# Altium integrated library TI_Logic_Gate.IntLib: 2017 symbols (part 10 of 56)
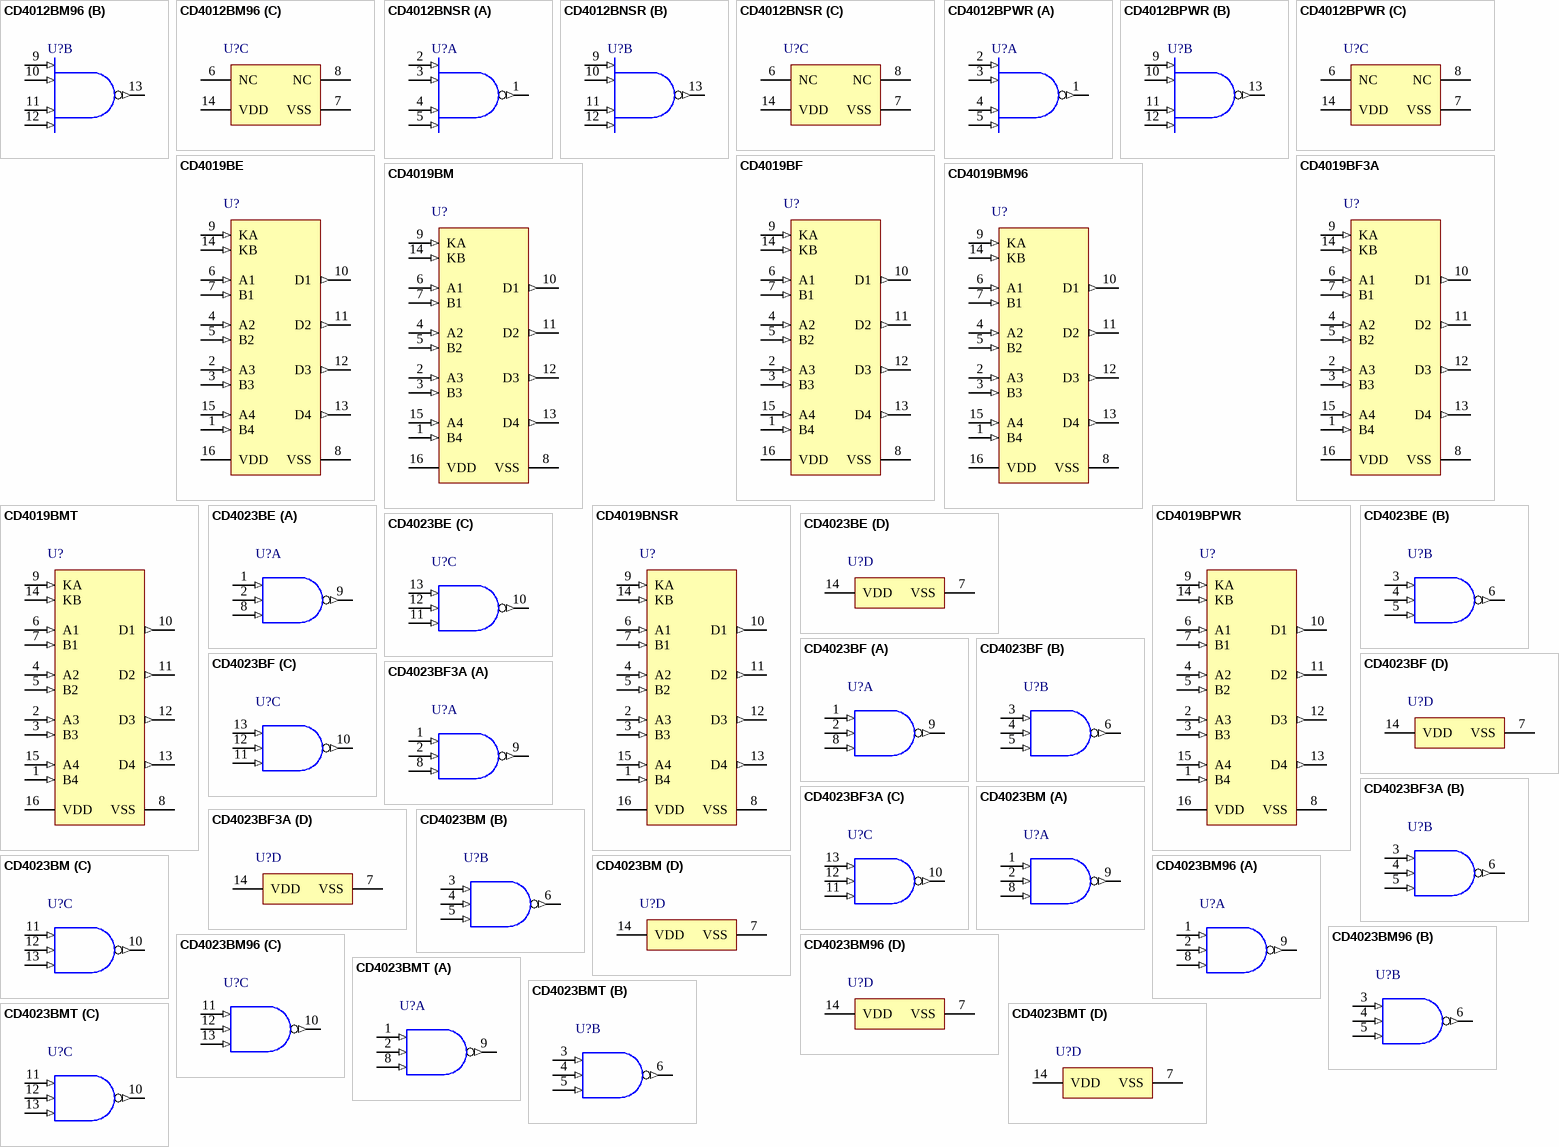
[diagram p234: symbols CD4012BM96 to CD4023BMT]

## CD4019BMT
designator U?
CMOS Quad AND/OR Select Gate, D0016A, SMALL T&R; Generic Part Number: CD4019B; Manufacturer: Texas Instruments; PartNumber: CD4019BMT; VCC(Max)(V): 18; VCC(Min)(V): 3; ICC @ Nom Voltage(Max)(mA): 0.06; Bits(#): 4; F @ Nom Voltage(Max)(Mhz): 8; Rating: Catalog; Technology Family: CD4000; Voltage(Nom)(V): 10; Schmitt Trigger: No; Output Drive (IOL/IOH)(Max)(mA): 1.5/-1.5; tpd @ Nom Voltage(Max)(ns): 120; DatasheetVersion: SCHS029C; PackageReference: D0016A; Supplier 1: Mouser; Supplier Part Number 1: 595-CD4019BMT; Supplier 2: Digi-Key; Supplier Part Number 2: CD4019BMT-ND; Output Type: CMOS; Input Type: CMOS; Operating Temperature Range(C): -55 to 125; Code_JEDEC: MS-012 variation AC; ComponentLink1Description: Manufacturer URL; ComponentLink1URL: http://www.ti.com/; ComponentLink2Description: Datasheet; ComponentLink2URL: http://www.ti.com/lit/ds/symlink/cd4019b.pdf; ComponentLink3Description: Package Specification; ComponentLink3URL: http://www.ti.com/lit/ml/mpds178g/mpds178g.pdf
footprint D0016A_N (SOIC, 16-Leads, Body 10x4mm, Pitch 1.27mm, IPC Medium Density)
footprint D0016A_M (SOIC, 16-Leads, Body 10x4mm, Pitch 1.27mm, IPC Low Density)
footprint D0016A_L (SOIC, 16-Leads, Body 10x4mm, Pitch 1.27mm, IPC High Density)
pins: 1 B4 (in), 2 A3 (in), 3 B3 (in), 4 A2 (in), 5 B2 (in), 6 A1 (in), 7 B1 (in), 8 VSS (power), 9 KA (in), 10 D1 (out), 11 D2 (out), 12 D3 (out), 13 D4 (out), 14 KB (in), 15 A4 (in), 16 VDD (power)

## CD4019BNSR
designator U?
CMOS Quad AND/OR Select Gate, NS0016A, LARGE T&R; Generic Part Number: CD4019B; Manufacturer: Texas Instruments; PartNumber: CD4019BNSR; VCC(Max)(V): 18; VCC(Min)(V): 3; ICC @ Nom Voltage(Max)(mA): 0.06; Bits(#): 4; F @ Nom Voltage(Max)(Mhz): 8; Rating: Catalog; Technology Family: CD4000; Voltage(Nom)(V): 10; Schmitt Trigger: No; Output Drive (IOL/IOH)(Max)(mA): 1.5/-1.5; tpd @ Nom Voltage(Max)(ns): 120; DatasheetVersion: SCHS029C; PackageReference: NS0016A; Supplier 1: Mouser; Supplier Part Number 1: 595-CD4019BNSR; Supplier 2: Digi-Key; Supplier Part Number 2: CD4019BNSR-ND; Output Type: CMOS; Input Type: CMOS; Operating Temperature Range(C): -55 to 125; ComponentLink1Description: Manufacturer URL; ComponentLink1URL: http://www.ti.com/; ComponentLink2Description: Datasheet; ComponentLink2URL: http://www.ti.com/lit/ds/symlink/cd4019b.pdf; ComponentLink3Description: Package Specification; ComponentLink3URL: http://www.ti.com/lit/ml/msop002a/msop002a.pdf
footprint NS0016A_N (SOIC,16-Leads,Body 10.5x5.6mm,Pitch 1.27mm,IPC Medium Density)
footprint NS0016A_M (SOIC,16-Leads,Body 10.5x5.6mm,Pitch 1.27mm,IPC Low Density)
footprint NS0016A_L (SOIC,16-Leads,Body 10.5x5.6mm,Pitch 1.27mm,IPC High Density)
pins: 1 B4 (in), 2 A3 (in), 3 B3 (in), 4 A2 (in), 5 B2 (in), 6 A1 (in), 7 B1 (in), 8 VSS (power), 9 KA (in), 10 D1 (out), 11 D2 (out), 12 D3 (out), 13 D4 (out), 14 KB (in), 15 A4 (in), 16 VDD (power)

## CD4019BPWR
designator U?
CMOS Quad AND/OR Select Gate, PW0016A, LARGE T&R; Generic Part Number: CD4019B; Manufacturer: Texas Instruments; PartNumber: CD4019BPWR; VCC(Max)(V): 18; VCC(Min)(V): 3; ICC @ Nom Voltage(Max)(mA): 0.06; Bits(#): 4; F @ Nom Voltage(Max)(Mhz): 8; Rating: Catalog; Technology Family: CD4000; Voltage(Nom)(V): 10; Schmitt Trigger: No; Output Drive (IOL/IOH)(Max)(mA): 1.5/-1.5; tpd @ Nom Voltage(Max)(ns): 120; DatasheetVersion: SCHS029C; PackageReference: PW0016A; Supplier 1: Mouser; Supplier Part Number 1: 595-CD4019BPWR; Supplier 2: Digi-Key; Supplier Part Number 2: CD4019BPWR-ND; Output Type: CMOS; Input Type: CMOS; Operating Temperature Range(C): -55 to 125; Code_JEDEC: MO-153; ComponentLink1Description: Manufacturer URL; ComponentLink1URL: http://www.ti.com/; ComponentLink2Description: Datasheet; ComponentLink2URL: http://www.ti.com/lit/ds/symlink/cd4019b.pdf; ComponentLink3Description: Package Specification; ComponentLink3URL: http://www.ti.com/lit/ml/mpds361/mpds361.pdf
footprint PW0016A_N (SOP, 16-Leads, Body 5.1x4.5mm, Pitch 0.65mm, IPC Medium Density)
footprint PW0016A_M (SOP, 16-Leads, Body 5.1x4.5mm, Pitch 0.65mm, IPC Low Density)
footprint PW0016A_L (SOP, 16-Leads, Body 5.1x4.5mm, Pitch 0.65mm, IPC High Density)
pins: 1 B4 (in), 2 A3 (in), 3 B3 (in), 4 A2 (in), 5 B2 (in), 6 A1 (in), 7 B1 (in), 8 VSS (power), 9 KA (in), 10 D1 (out), 11 D2 (out), 12 D3 (out), 13 D4 (out), 14 KB (in), 15 A4 (in), 16 VDD (power)

## CD4023BE
designator U?
CMOS Triple 3-Input NAND Gate, N0014A, TUBE; Generic Part Number: CD4023B; Manufacturer: Texas Instruments; PartNumber: CD4023BE; VCC(Max)(V): 18; VCC(Min)(V): 3; ICC @ Nom Voltage(Max)(mA): 0.015; F @ Nom Voltage(Max)(Mhz): 8; Rating: Military; Technology Family: CD4000; Voltage(Nom)(V): 10; Schmitt Trigger: No; Output Drive (IOL/IOH)(Max)(mA): 1.5/-1.5; DatasheetVersion: SCHS021D; PackageReference: N0014A; Supplier 1: Mouser; Supplier Part Number 1: 595-CD4023BE; Supplier 2: Digi-Key; Supplier Part Number 2: 296-2041-5-ND; Output Type: CMOS; Input Type: CMOS; Bits(#): 3; Operating Temperature Range(C): -55 to 125; Code_JEDEC: MS-001; ComponentLink1Description: Manufacturer URL; ComponentLink1URL: http://www.ti.com/; ComponentLink2Description: Datasheet; ComponentLink2URL: http://www.ti.com/lit/ds/symlink/cd4023b.pdf; ComponentLink3Description: Package Specification; ComponentLink3URL: http://www.ti.com/lit/ml/mpdi002c/mpdi002c.pdf
footprint N0014A (DIP, 14-Leads, Body 19.7x6.6mm, Pitch 2.54mm)
part A pins: 1 A (in), 2 B (in), 8 C (in), 9 J (out)
part B pins: 3 D (in), 4 E (in), 5 F (in), 6 K (out)
part C pins: 10 L (out), 11 I (in), 12 H (in), 13 G (in)
part D pins: 7 VSS (power), 14 VDD (power)

## CD4023BF
designator U?
CMOS Triple 3-Input NAND Gate, J0014A, TUBE; Generic Part Number: CD4023B; Manufacturer: Texas Instruments; PartNumber: CD4023BF; VCC(Max)(V): 18; VCC(Min)(V): 3; ICC @ Nom Voltage(Max)(mA): 0.015; F @ Nom Voltage(Max)(Mhz): 8; Rating: Military; Technology Family: CD4000; Voltage(Nom)(V): 10; Schmitt Trigger: No; Output Drive (IOL/IOH)(Max)(mA): 1.5/-1.5; DatasheetVersion: SCHS021D; PackageReference: J0014A; Output Type: CMOS; Input Type: CMOS; Bits(#): 3; Operating Temperature Range(C): -55 to 125; ComponentLink1Description: Manufacturer URL; ComponentLink1URL: http://www.ti.com/; ComponentLink2Description: Datasheet; ComponentLink2URL: http://www.ti.com/lit/ds/symlink/cd4023b.pdf; ComponentLink3Description: Package Specification; ComponentLink3URL: http://www.ti.com/lit/ml/mcer002d/mcer002d.pdf
footprint J0014A (DIP, 14-Leads, Body 19.95x7.2mm, Pitch 2.54mm)
part A pins: 1 A (in), 2 B (in), 8 C (in), 9 J (out)
part B pins: 3 D (in), 4 E (in), 5 F (in), 6 K (out)
part C pins: 10 L (out), 11 I (in), 12 H (in), 13 G (in)
part D pins: 7 VSS (power), 14 VDD (power)

## CD4023BF3A
designator U?
CMOS Triple 3-Input NAND Gate, J0014A, TUBE; Generic Part Number: CD4023B; Manufacturer: Texas Instruments; PartNumber: CD4023BF3A; VCC(Max)(V): 18; VCC(Min)(V): 3; ICC @ Nom Voltage(Max)(mA): 0.015; F @ Nom Voltage(Max)(Mhz): 8; Rating: Military; Technology Family: CD4000; Voltage(Nom)(V): 10; Schmitt Trigger: No; Output Drive (IOL/IOH)(Max)(mA): 1.5/-1.5; DatasheetVersion: SCHS021D; PackageReference: J0014A; Output Type: CMOS; Input Type: CMOS; Bits(#): 3; Operating Temperature Range(C): -55 to 125; ComponentLink1Description: Manufacturer URL; ComponentLink1URL: http://www.ti.com/; ComponentLink2Description: Datasheet; ComponentLink2URL: http://www.ti.com/lit/ds/symlink/cd4023b.pdf; ComponentLink3Description: Package Specification; ComponentLink3URL: http://www.ti.com/lit/ml/mcer002d/mcer002d.pdf
footprint J0014A (DIP, 14-Leads, Body 19.95x7.2mm, Pitch 2.54mm)
part A pins: 1 A (in), 2 B (in), 8 C (in), 9 J (out)
part B pins: 3 D (in), 4 E (in), 5 F (in), 6 K (out)
part C pins: 10 L (out), 11 I (in), 12 H (in), 13 G (in)
part D pins: 7 VSS (power), 14 VDD (power)

## CD4023BM
designator U?
CMOS Triple 3-Input NAND Gate, D0014A, TUBE; Generic Part Number: CD4023B; Manufacturer: Texas Instruments; PartNumber: CD4023BM; VCC(Max)(V): 18; VCC(Min)(V): 3; ICC @ Nom Voltage(Max)(mA): 0.015; F @ Nom Voltage(Max)(Mhz): 8; Rating: Military; Technology Family: CD4000; Voltage(Nom)(V): 10; Schmitt Trigger: No; Output Drive (IOL/IOH)(Max)(mA): 1.5/-1.5; DatasheetVersion: SCHS021D; PackageReference: D0014A; Supplier 1: Mouser; Supplier Part Number 1: 595-CD4023BM; Supplier 2: Digi-Key; Supplier Part Number 2: 296-25941-5-ND; Output Type: CMOS; Input Type: CMOS; Bits(#): 3; Operating Temperature Range(C): -55 to 125; Code_JEDEC: MS-012; ComponentLink1Description: Manufacturer URL; ComponentLink1URL: http://www.ti.com/; ComponentLink2Description: Datasheet; ComponentLink2URL: http://www.ti.com/lit/ds/symlink/cd4023b.pdf; ComponentLink3Description: Package Specification; ComponentLink3URL: http://www.ti.com/lit/ml/mpds177g/mpds177g.pdf
footprint D0014A_N (SOIC, 14-Leads, Body 8.75x4mm, Pitch 1.27mm, IPC Medium Density)
footprint D0014A_M (SOIC, 14-Leads, Body 8.75x4mm, Pitch 1.27mm, IPC Low Density)
footprint D0014A_L (SOIC, 14-Leads, Body 8.75x4mm, Pitch 1.27mm, IPC High Density)
part A pins: 1 A (in), 2 B (in), 8 C (in), 9 J (out)
part B pins: 3 D (in), 4 E (in), 5 F (in), 6 K (out)
part C pins: 10 L (out), 11 I (in), 12 H (in), 13 G (in)
part D pins: 7 VSS (power), 14 VDD (power)

## CD4023BM96
designator U?
CMOS Triple 3-Input NAND Gate, D0014A, LARGE T&R; Generic Part Number: CD4023B; Manufacturer: Texas Instruments; PartNumber: CD4023BM96; VCC(Max)(V): 18; VCC(Min)(V): 3; ICC @ Nom Voltage(Max)(mA): 0.015; F @ Nom Voltage(Max)(Mhz): 8; Rating: Military; Technology Family: CD4000; Voltage(Nom)(V): 10; Schmitt Trigger: No; Output Drive (IOL/IOH)(Max)(mA): 1.5/-1.5; DatasheetVersion: SCHS021D; PackageReference: D0014A; Supplier 1: Mouser; Supplier Part Number 1: 595-CD4023BM96; Supplier 2: Digi-Key; Supplier Part Number 2: 296-41218-2-ND; Supplier 3: Digi-Key; Supplier Part Number 3: 296-41218-1-ND; Supplier 4: Digi-Key; Supplier Part Number 4: 296-41218-6-ND; Output Type: CMOS; Input Type: CMOS; Bits(#): 3; Operating Temperature Range(C): -55 to 125; Code_JEDEC: MS-012; ComponentLink1Description: Manufacturer URL; ComponentLink1URL: http://www.ti.com/; ComponentLink2Description: Datasheet; ComponentLink2URL: http://www.ti.com/lit/ds/symlink/cd4023b.pdf; ComponentLink3Description: Package Specification; ComponentLink3URL: http://www.ti.com/lit/ml/mpds177g/mpds177g.pdf
footprint D0014A_N (SOIC, 14-Leads, Body 8.75x4mm, Pitch 1.27mm, IPC Medium Density)
footprint D0014A_M (SOIC, 14-Leads, Body 8.75x4mm, Pitch 1.27mm, IPC Low Density)
footprint D0014A_L (SOIC, 14-Leads, Body 8.75x4mm, Pitch 1.27mm, IPC High Density)
part A pins: 1 A (in), 2 B (in), 8 C (in), 9 J (out)
part B pins: 3 D (in), 4 E (in), 5 F (in), 6 K (out)
part C pins: 10 L (out), 11 I (in), 12 H (in), 13 G (in)
part D pins: 7 VSS (power), 14 VDD (power)

## CD4023BMT
designator U?
CMOS Triple 3-Input NAND Gate, D0014A, SMALL T&R; Generic Part Number: CD4023B; Manufacturer: Texas Instruments; PartNumber: CD4023BMT; VCC(Max)(V): 18; VCC(Min)(V): 3; ICC @ Nom Voltage(Max)(mA): 0.015; F @ Nom Voltage(Max)(Mhz): 8; Rating: Military; Technology Family: CD4000; Voltage(Nom)(V): 10; Schmitt Trigger: No; Output Drive (IOL/IOH)(Max)(mA): 1.5/-1.5; DatasheetVersion: SCHS021D; PackageReference: D0014A; Supplier 1: Mouser; Supplier Part Number 1: 595-CD4023BMT; Supplier 2: Digi-Key; Supplier Part Number 2: CD4023BMT-ND; Output Type: CMOS; Input Type: CMOS; Bits(#): 3; Operating Temperature Range(C): -55 to 125; Code_JEDEC: MS-012; ComponentLink1Description: Manufacturer URL; ComponentLink1URL: http://www.ti.com/; ComponentLink2Description: Datasheet; ComponentLink2URL: http://www.ti.com/lit/ds/symlink/cd4023b.pdf; ComponentLink3Description: Package Specification; ComponentLink3URL: http://www.ti.com/lit/ml/mpds177g/mpds177g.pdf
footprint D0014A_N (SOIC, 14-Leads, Body 8.75x4mm, Pitch 1.27mm, IPC Medium Density)
footprint D0014A_M (SOIC, 14-Leads, Body 8.75x4mm, Pitch 1.27mm, IPC Low Density)
footprint D0014A_L (SOIC, 14-Leads, Body 8.75x4mm, Pitch 1.27mm, IPC High Density)
part A pins: 1 A (in), 2 B (in), 8 C (in), 9 J (out)
part B pins: 3 D (in), 4 E (in), 5 F (in), 6 K (out)
part C pins: 10 L (out), 11 I (in), 12 H (in), 13 G (in)
part D pins: 7 VSS (power), 14 VDD (power)

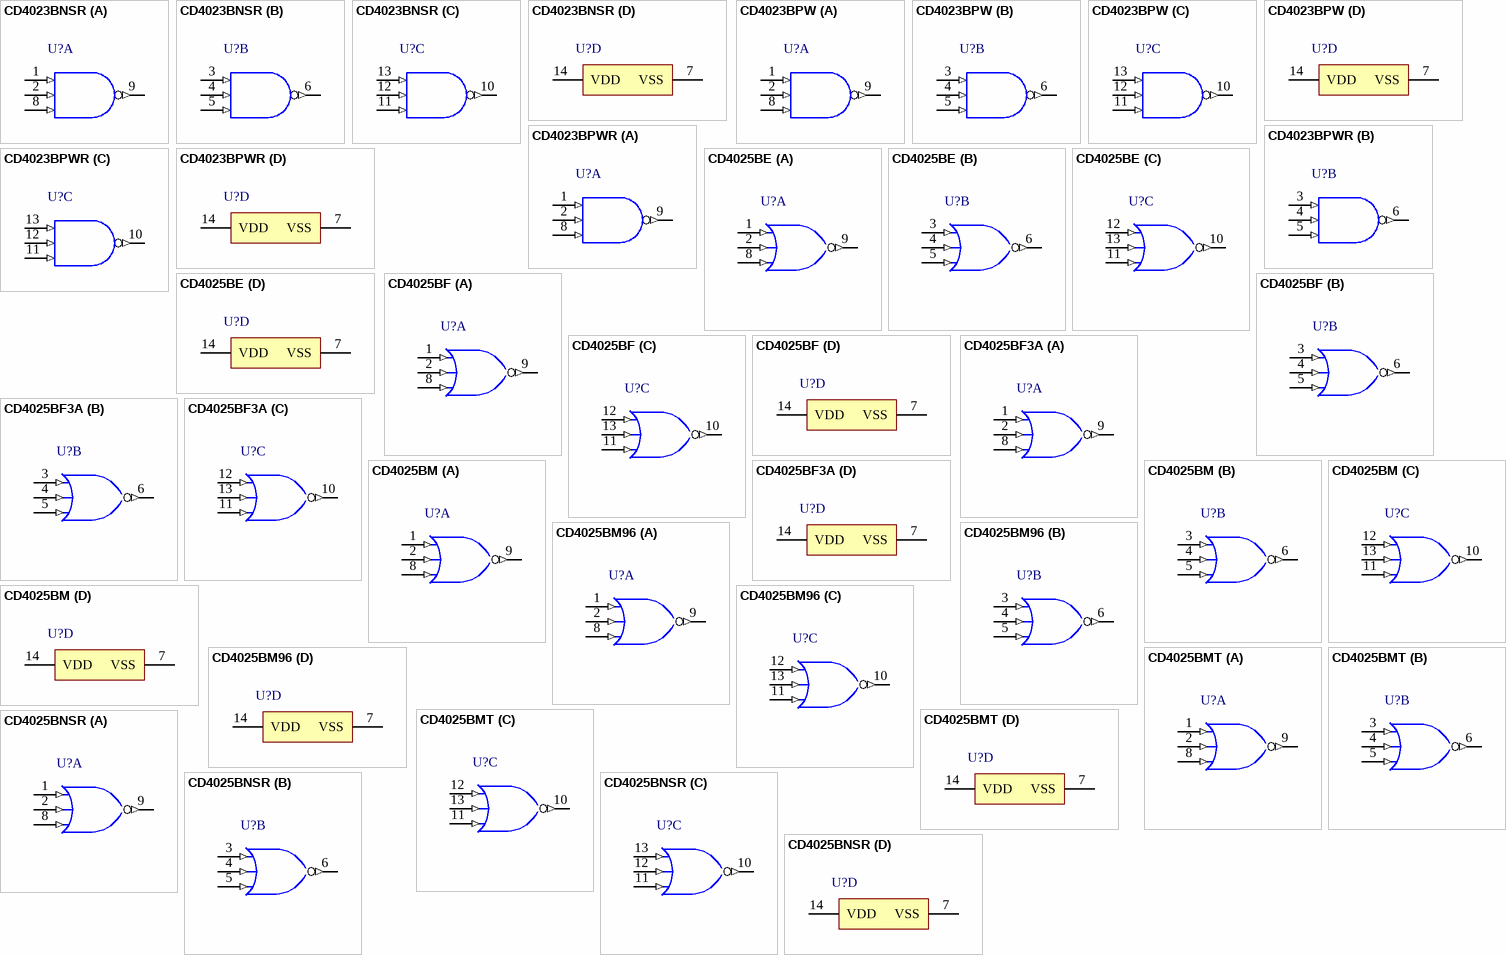
[diagram p37: symbols CD4023BNSR to CD4025BNSR]

## CD4023BNSR
designator U?
CMOS Triple 3-Input NAND Gate, NS0014A, LARGE T&R; Generic Part Number: CD4023B; Manufacturer: Texas Instruments; PartNumber: CD4023BNSR; VCC(Max)(V): 18; VCC(Min)(V): 3; ICC @ Nom Voltage(Max)(mA): 0.015; F @ Nom Voltage(Max)(Mhz): 8; Rating: Military; Technology Family: CD4000; Voltage(Nom)(V): 10; Schmitt Trigger: No; Output Drive (IOL/IOH)(Max)(mA): 1.5/-1.5; DatasheetVersion: SCHS021D; PackageReference: NS0014A; Supplier 1: Mouser; Supplier Part Number 1: 595-CD4023BNSR; Supplier 2: Digi-Key; Supplier Part Number 2: 296-14099-2-ND; Supplier 3: Digi-Key; Supplier Part Number 3: 296-14099-1-ND; Supplier 4: Digi-Key; Supplier Part Number 4: 296-14099-6-ND; Output Type: CMOS; Input Type: CMOS; Bits(#): 3; Operating Temperature Range(C): -55 to 125; ComponentLink1Description: Manufacturer URL; ComponentLink1URL: http://www.ti.com/; ComponentLink2Description: Datasheet; ComponentLink2URL: http://www.ti.com/lit/ds/symlink/cd4023b.pdf; ComponentLink3Description: Package Specification; ComponentLink3URL: http://www.ti.com/lit/ml/msop002a/msop002a.pdf
footprint NS0014A_N (SOIC,14-Leads,Body 10.5x5.6mm,Pitch 1.27mm,IPC Medium Density)
footprint NS0014A_M (SOIC,14-Leads,Body 10.5x5.6mm,Pitch 1.27mm,IPC Low Density)
footprint NS0014A_L (SOIC,14-Leads,Body 10.5x5.6mm,Pitch 0.4mm,IPC High Density)
part A pins: 1 A (in), 2 B (in), 8 C (in), 9 J (out)
part B pins: 3 D (in), 4 E (in), 5 F (in), 6 K (out)
part C pins: 10 L (out), 11 I (in), 12 H (in), 13 G (in)
part D pins: 7 VSS (power), 14 VDD (power)

## CD4023BPW
designator U?
CMOS Triple 3-Input NAND Gate, PW0014A, TUBE; Generic Part Number: CD4023B; Manufacturer: Texas Instruments; PartNumber: CD4023BPW; VCC(Max)(V): 18; VCC(Min)(V): 3; ICC @ Nom Voltage(Max)(mA): 0.015; F @ Nom Voltage(Max)(Mhz): 8; Rating: Military; Technology Family: CD4000; Voltage(Nom)(V): 10; Schmitt Trigger: No; Output Drive (IOL/IOH)(Max)(mA): 1.5/-1.5; DatasheetVersion: SCHS021D; PackageReference: PW0014A; Supplier 1: Mouser; Supplier Part Number 1: 595-CD4023BPW; Supplier 2: Digi-Key; Supplier Part Number 2: CD4023BPW-ND; Output Type: CMOS; Input Type: CMOS; Bits(#): 3; Operating Temperature Range(C): -55 to 125; Code_JEDEC: MO-153; ComponentLink1Description: Manufacturer URL; ComponentLink1URL: http://www.ti.com/; ComponentLink2Description: Datasheet; ComponentLink2URL: http://www.ti.com/lit/ds/symlink/cd4023b.pdf; ComponentLink3Description: Package Specification; ComponentLink3URL: http://www.ti.com/lit/ml/mpds360/mpds360.pdf
footprint PW0014A_N (SOP, 14-Leads, Body 5.1x4.5mm, Pitch 0.65mm, IPC Medium Density)
footprint PW0014A_M (SOP, 14-Leads, Body 5.1x4.5mm, Pitch 0.65mm, IPC Low Density)
footprint PW0014A_L (SOP, 14-Leads, Body 5.1x4.5mm, Pitch 0.65mm, IPC High Density)
part A pins: 1 A (in), 2 B (in), 8 C (in), 9 J (out)
part B pins: 3 D (in), 4 E (in), 5 F (in), 6 K (out)
part C pins: 10 L (out), 11 I (in), 12 H (in), 13 G (in)
part D pins: 7 VSS (power), 14 VDD (power)

## CD4023BPWR
designator U?
CMOS Triple 3-Input NAND Gate, PW0014A, LARGE T&R; Generic Part Number: CD4023B; Manufacturer: Texas Instruments; PartNumber: CD4023BPWR; VCC(Max)(V): 18; VCC(Min)(V): 3; ICC @ Nom Voltage(Max)(mA): 0.015; F @ Nom Voltage(Max)(Mhz): 8; Rating: Military; Technology Family: CD4000; Voltage(Nom)(V): 10; Schmitt Trigger: No; Output Drive (IOL/IOH)(Max)(mA): 1.5/-1.5; DatasheetVersion: SCHS021D; PackageReference: PW0014A; Supplier 1: Mouser; Supplier Part Number 1: 595-CD4023BPWR; Supplier 2: Digi-Key; Supplier Part Number 2: 296-31492-2-ND; Supplier 3: Digi-Key; Supplier Part Number 3: 296-31492-1-ND; Supplier 4: Digi-Key; Supplier Part Number 4: 296-31492-6-ND; Output Type: CMOS; Input Type: CMOS; Bits(#): 3; Operating Temperature Range(C): -55 to 125; Code_JEDEC: MO-153; ComponentLink1Description: Manufacturer URL; ComponentLink1URL: http://www.ti.com/; ComponentLink2Description: Datasheet; ComponentLink2URL: http://www.ti.com/lit/ds/symlink/cd4023b.pdf; ComponentLink3Description: Package Specification; ComponentLink3URL: http://www.ti.com/lit/ml/mpds360/mpds360.pdf
footprint PW0014A_N (SOP, 14-Leads, Body 5.1x4.5mm, Pitch 0.65mm, IPC Medium Density)
footprint PW0014A_M (SOP, 14-Leads, Body 5.1x4.5mm, Pitch 0.65mm, IPC Low Density)
footprint PW0014A_L (SOP, 14-Leads, Body 5.1x4.5mm, Pitch 0.65mm, IPC High Density)
part A pins: 1 A (in), 2 B (in), 8 C (in), 9 J (out)
part B pins: 3 D (in), 4 E (in), 5 F (in), 6 K (out)
part C pins: 10 L (out), 11 I (in), 12 H (in), 13 G (in)
part D pins: 7 VSS (power), 14 VDD (power)

## CD4025BE
designator U?
CMOS Triple 3-Input NOR Gate, N0014A, TUBE; Generic Part Number: CD4025B; Manufacturer: Texas Instruments; PartNumber: CD4025BE; VCC(Min)(V): 3; VCC(Max)(V): 18; Rating: Catalog; tpd @ Nom Voltage(Max)(ns): 120; ICC @ Nom Voltage(Max)(mA): 0.015; F @ Nom Voltage(Max)(Mhz): 8; Voltage(Nom)(V): 10; Output Drive (IOL/IOH)(Max)(mA): 1.5/-1.5; DatasheetVersion: SCHS015C; PackageReference: N0014A; Output Type: CMOS; Input Type: CMOS; Bits(#): 3; Operating Temperature Range(C): -55 to 125; Code_JEDEC: MS-001; ComponentLink1Description: Manufacturer URL; ComponentLink1URL: http://www.ti.com/; ComponentLink2Description: Datasheet; ComponentLink2URL: http://www.ti.com/lit/ds/symlink/cd4025b.pdf; ComponentLink3Description: Package Specification; ComponentLink3URL: http://www.ti.com/lit/ml/mpdi002c/mpdi002c.pdf
footprint N0014A (DIP, 14-Leads, Body 19.7x6.6mm, Pitch 2.54mm)
part A pins: 1 A (in), 2 B (in), 8 C (in), 9 J (out)
part B pins: 3 D (in), 4 E (in), 5 F (in), 6 K (out)
part C pins: 10 L (out), 11 I (in), 12 G (in), 13 H (in)
part D pins: 7 VSS (power), 14 VDD (power)

## CD4025BF
designator U?
CMOS Triple 3-Input NOR Gate, J0014A, TUBE; Generic Part Number: CD4025B-MIL; Manufacturer: Texas Instruments; PartNumber: CD4025BF; VCC(Min)(V): 3; VCC(Max)(V): 18; Rating: Military; tpd @ Nom Voltage(Max)(ns): 250; ICC @ Nom Voltage(Max)(mA): 0.015; F @ Nom Voltage(Max)(Mhz): 8; Voltage(Nom)(V): 10; Output Drive (IOL/IOH)(Max)(mA): 1.5/-1.5; DatasheetVersion: SCHS015C; PackageReference: J0014A; Output Type: CMOS; Input Type: CMOS; Bits(#): 3; Operating Temperature Range(C): -55 to 125; ComponentLink1Description: Manufacturer URL; ComponentLink1URL: http://www.ti.com/; ComponentLink2Description: Datasheet; ComponentLink2URL: http://www.ti.com/lit/ds/symlink/cd4025b-mil.pdf; ComponentLink3Description: Package Specification; ComponentLink3URL: http://www.ti.com/lit/ml/mcer002d/mcer002d.pdf
footprint J0014A (DIP, 14-Leads, Body 19.95x7.2mm, Pitch 2.54mm)
part A pins: 1 A (in), 2 B (in), 8 C (in), 9 J (out)
part B pins: 3 D (in), 4 E (in), 5 F (in), 6 K (out)
part C pins: 10 L (out), 11 I (in), 12 G (in), 13 H (in)
part D pins: 7 VSS (power), 14 VDD (power)

## CD4025BF3A
designator U?
CMOS Triple 3-Input NOR Gate, J0014A, TUBE; Generic Part Number: CD4025B-MIL; Manufacturer: Texas Instruments; PartNumber: CD4025BF3A; VCC(Min)(V): 3; VCC(Max)(V): 18; Rating: Military; tpd @ Nom Voltage(Max)(ns): 250; ICC @ Nom Voltage(Max)(mA): 0.015; F @ Nom Voltage(Max)(Mhz): 8; Voltage(Nom)(V): 10; Output Drive (IOL/IOH)(Max)(mA): 1.5/-1.5; DatasheetVersion: SCHS015C; PackageReference: J0014A; Output Type: CMOS; Input Type: CMOS; Bits(#): 3; Operating Temperature Range(C): -55 to 125; ComponentLink1Description: Manufacturer URL; ComponentLink1URL: http://www.ti.com/; ComponentLink2Description: Datasheet; ComponentLink2URL: http://www.ti.com/lit/ds/symlink/cd4025b-mil.pdf; ComponentLink3Description: Package Specification; ComponentLink3URL: http://www.ti.com/lit/ml/mcer002d/mcer002d.pdf
footprint J0014A (DIP, 14-Leads, Body 19.95x7.2mm, Pitch 2.54mm)
part A pins: 1 A (in), 2 B (in), 8 C (in), 9 J (out)
part B pins: 3 D (in), 4 E (in), 5 F (in), 6 K (out)
part C pins: 10 L (out), 11 I (in), 12 G (in), 13 H (in)
part D pins: 7 VSS (power), 14 VDD (power)

## CD4025BM
designator U?
CMOS Triple 3-Input NOR Gate, D0014A, TUBE; Generic Part Number: CD4025B; Manufacturer: Texas Instruments; PartNumber: CD4025BM; VCC(Min)(V): 3; VCC(Max)(V): 18; Rating: Catalog; tpd @ Nom Voltage(Max)(ns): 120; ICC @ Nom Voltage(Max)(mA): 0.015; F @ Nom Voltage(Max)(Mhz): 8; Voltage(Nom)(V): 10; Output Drive (IOL/IOH)(Max)(mA): 1.5/-1.5; DatasheetVersion: SCHS015C; PackageReference: D0014A; Output Type: CMOS; Input Type: CMOS; Bits(#): 3; Operating Temperature Range(C): -55 to 125; Code_JEDEC: MS-012; ComponentLink1Description: Manufacturer URL; ComponentLink1URL: http://www.ti.com/; ComponentLink2Description: Datasheet; ComponentLink2URL: http://www.ti.com/lit/ds/symlink/cd4025b.pdf; ComponentLink3Description: Package Specification; ComponentLink3URL: http://www.ti.com/lit/ml/mpds177g/mpds177g.pdf
footprint D0014A_N (SOIC, 14-Leads, Body 8.75x4mm, Pitch 1.27mm, IPC Medium Density)
footprint D0014A_M (SOIC, 14-Leads, Body 8.75x4mm, Pitch 1.27mm, IPC Low Density)
footprint D0014A_L (SOIC, 14-Leads, Body 8.75x4mm, Pitch 1.27mm, IPC High Density)
part A pins: 1 A (in), 2 B (in), 8 C (in), 9 J (out)
part B pins: 3 D (in), 4 E (in), 5 F (in), 6 K (out)
part C pins: 10 L (out), 11 I (in), 12 G (in), 13 H (in)
part D pins: 7 VSS (power), 14 VDD (power)

## CD4025BM96
designator U?
CMOS Triple 3-Input NOR Gate, D0014A, LARGE T&R; Generic Part Number: CD4025B; Manufacturer: Texas Instruments; PartNumber: CD4025BM96; VCC(Min)(V): 3; VCC(Max)(V): 18; Rating: Catalog; tpd @ Nom Voltage(Max)(ns): 120; ICC @ Nom Voltage(Max)(mA): 0.015; F @ Nom Voltage(Max)(Mhz): 8; Voltage(Nom)(V): 10; Output Drive (IOL/IOH)(Max)(mA): 1.5/-1.5; DatasheetVersion: SCHS015C; PackageReference: D0014A; Output Type: CMOS; Input Type: CMOS; Bits(#): 3; Operating Temperature Range(C): -55 to 125; Code_JEDEC: MS-012; ComponentLink1Description: Manufacturer URL; ComponentLink1URL: http://www.ti.com/; ComponentLink2Description: Datasheet; ComponentLink2URL: http://www.ti.com/lit/ds/symlink/cd4025b.pdf; ComponentLink3Description: Package Specification; ComponentLink3URL: http://www.ti.com/lit/ml/mpds177g/mpds177g.pdf
footprint D0014A_N (SOIC, 14-Leads, Body 8.75x4mm, Pitch 1.27mm, IPC Medium Density)
footprint D0014A_M (SOIC, 14-Leads, Body 8.75x4mm, Pitch 1.27mm, IPC Low Density)
footprint D0014A_L (SOIC, 14-Leads, Body 8.75x4mm, Pitch 1.27mm, IPC High Density)
part A pins: 1 A (in), 2 B (in), 8 C (in), 9 J (out)
part B pins: 3 D (in), 4 E (in), 5 F (in), 6 K (out)
part C pins: 10 L (out), 11 I (in), 12 G (in), 13 H (in)
part D pins: 7 VSS (power), 14 VDD (power)

## CD4025BMT
designator U?
CMOS Triple 3-Input NOR Gate, D0014A, SMALL T&R; Generic Part Number: CD4025B; Manufacturer: Texas Instruments; PartNumber: CD4025BMT; VCC(Min)(V): 3; VCC(Max)(V): 18; Rating: Catalog; tpd @ Nom Voltage(Max)(ns): 120; ICC @ Nom Voltage(Max)(mA): 0.015; F @ Nom Voltage(Max)(Mhz): 8; Voltage(Nom)(V): 10; Output Drive (IOL/IOH)(Max)(mA): 1.5/-1.5; DatasheetVersion: SCHS015C; PackageReference: D0014A; Output Type: CMOS; Input Type: CMOS; Bits(#): 3; Operating Temperature Range(C): -55 to 125; Code_JEDEC: MS-012; ComponentLink1Description: Manufacturer URL; ComponentLink1URL: http://www.ti.com/; ComponentLink2Description: Datasheet; ComponentLink2URL: http://www.ti.com/lit/ds/symlink/cd4025b.pdf; ComponentLink3Description: Package Specification; ComponentLink3URL: http://www.ti.com/lit/ml/mpds177g/mpds177g.pdf
footprint D0014A_N (SOIC, 14-Leads, Body 8.75x4mm, Pitch 1.27mm, IPC Medium Density)
footprint D0014A_M (SOIC, 14-Leads, Body 8.75x4mm, Pitch 1.27mm, IPC Low Density)
footprint D0014A_L (SOIC, 14-Leads, Body 8.75x4mm, Pitch 1.27mm, IPC High Density)
part A pins: 1 A (in), 2 B (in), 8 C (in), 9 J (out)
part B pins: 3 D (in), 4 E (in), 5 F (in), 6 K (out)
part C pins: 10 L (out), 11 I (in), 12 G (in), 13 H (in)
part D pins: 7 VSS (power), 14 VDD (power)

## CD4025BNSR
designator U?
CMOS Triple 3-Input NOR Gate, NS0014A, LARGE T&R; Generic Part Number: CD4025B; Manufacturer: Texas Instruments; PartNumber: CD4025BNSR; VCC(Min)(V): 3; VCC(Max)(V): 18; Rating: Catalog; tpd @ Nom Voltage(Max)(ns): 120; ICC @ Nom Voltage(Max)(mA): 0.015; F @ Nom Voltage(Max)(Mhz): 8; Voltage(Nom)(V): 10; Output Drive (IOL/IOH)(Max)(mA): 1.5/-1.5; DatasheetVersion: SCHS015C; PackageReference: NS0014A; Output Type: CMOS; Input Type: CMOS; Bits(#): 3; Operating Temperature Range(C): -55 to 125; ComponentLink1Description: Manufacturer URL; ComponentLink1URL: http://www.ti.com/; ComponentLink2Description: Datasheet; ComponentLink2URL: http://www.ti.com/lit/ds/symlink/cd4025b.pdf; ComponentLink3Description: Package Specification; ComponentLink3URL: http://www.ti.com/lit/ml/msop002a/msop002a.pdf
footprint NS0014A_N (SOIC,14-Leads,Body 10.5x5.6mm,Pitch 1.27mm,IPC Medium Density)
footprint NS0014A_M (SOIC,14-Leads,Body 10.5x5.6mm,Pitch 1.27mm,IPC Low Density)
footprint NS0014A_L (SOIC,14-Leads,Body 10.5x5.6mm,Pitch 0.4mm,IPC High Density)
part A pins: 1 A (in), 2 B (in), 8 C (in), 9 J (out)
part B pins: 3 D (in), 4 E (in), 5 F (in), 6 K (out)
part C pins: 10 L (out), 11 I (in), 12 H (in), 13 G (in)
part D pins: 7 VSS (power), 14 VDD (power)

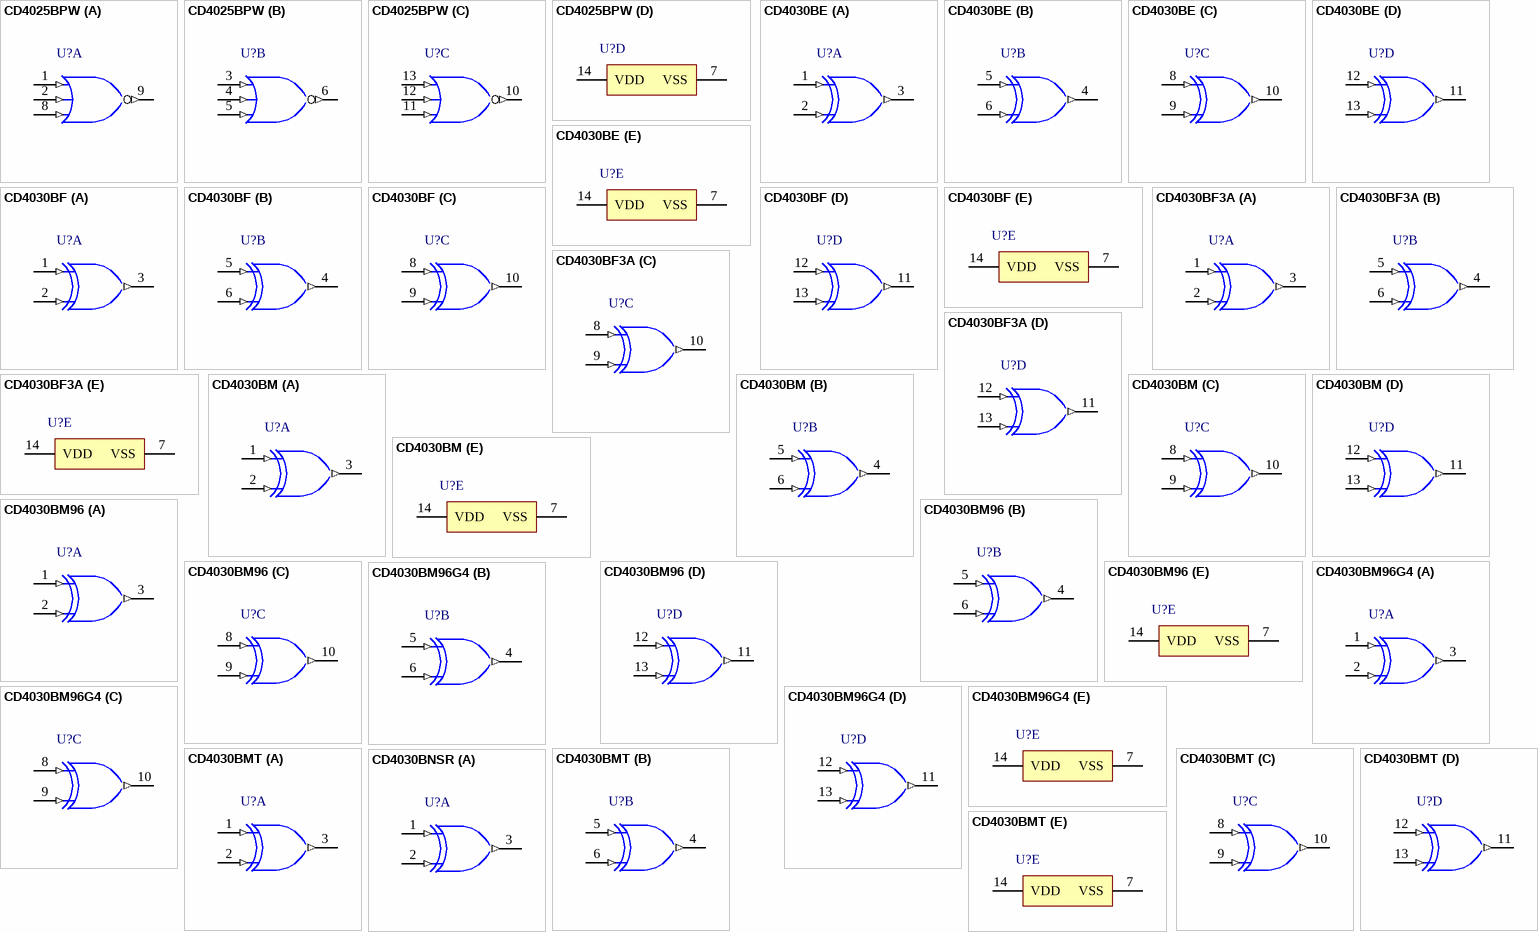
[diagram p38: symbols CD4025BPW to CD4030BNSR]

## CD4025BPW
designator U?
CMOS Triple 3-Input NOR Gate, PW0014A, TUBE; Generic Part Number: CD4025B; Manufacturer: Texas Instruments; PartNumber: CD4025BPW; VCC(Min)(V): 3; VCC(Max)(V): 18; Rating: Catalog; tpd @ Nom Voltage(Max)(ns): 120; ICC @ Nom Voltage(Max)(mA): 0.015; F @ Nom Voltage(Max)(Mhz): 8; Voltage(Nom)(V): 10; Output Drive (IOL/IOH)(Max)(mA): 1.5/-1.5; DatasheetVersion: SCHS015C; PackageReference: PW0014A; Output Type: CMOS; Input Type: CMOS; Bits(#): 3; Operating Temperature Range(C): -55 to 125; Code_JEDEC: MO-153; ComponentLink1Description: Manufacturer URL; ComponentLink1URL: http://www.ti.com/; ComponentLink2Description: Datasheet; ComponentLink2URL: http://www.ti.com/lit/ds/symlink/cd4025b.pdf; ComponentLink3Description: Package Specification; ComponentLink3URL: http://www.ti.com/lit/ml/mpds360/mpds360.pdf
footprint PW0014A_N (SOP, 14-Leads, Body 5.1x4.5mm, Pitch 0.65mm, IPC Medium Density)
footprint PW0014A_M (SOP, 14-Leads, Body 5.1x4.5mm, Pitch 0.65mm, IPC Low Density)
footprint PW0014A_L (SOP, 14-Leads, Body 5.1x4.5mm, Pitch 0.65mm, IPC High Density)
part A pins: 1 A (in), 2 B (in), 8 C (in), 9 J (out)
part B pins: 3 D (in), 4 E (in), 5 F (in), 6 K (out)
part C pins: 10 L (out), 11 I (in), 12 H (in), 13 G (in)
part D pins: 7 VSS (power), 14 VDD (power)

## CD4030BE
designator U?
CMOS Quad Exclusive-OR Gate, N0014A, TUBE; Generic Part Number: CD4030B; Manufacturer: Texas Instruments; PartNumber: CD4030BE; VCC(Max)(V): 18; VCC(Min)(V): 3; ICC @ Nom Voltage(Max)(mA): 0.015; Bits(#): 4; F @ Nom Voltage(Max)(Mhz): 8; Rating: Military; Technology Family: CD4000; Voltage(Nom)(V): 10; Schmitt Trigger: No; Output Drive (IOL/IOH)(Max)(mA): 1.5/-1.5; tpd @ Nom Voltage(Max)(ns): 130; DatasheetVersion: SCHS035C; PackageReference: N0014A; Supplier 1: Mouser; Supplier Part Number 1: 595-CD4030BE; Supplier 2: Digi-Key; Supplier Part Number 2: 296-2047-5-ND; Output Type: CMOS; Input Type: CMOS; Operating Temperature Range(C): -55 to 125; ComponentLink1Description: Manufacturer URL; ComponentLink1URL: http://www.ti.com/; ComponentLink2Description: Datasheet; ComponentLink2URL: http://www.ti.com/lit/ds/symlink/cd4030b.pdf
footprint N0014A (DIP, 14-Leads, Body 19.7x6.6mm, Pitch 2.54mm)
part A pins: 1 A (in), 2 B (in), 3 J (out)
part B pins: 4 K (out), 5 C (in), 6 D (in)
part C pins: 8 E (in), 9 F (in), 10 L (out)
part D pins: 11 M (out), 12 G (in), 13 H (in)
part E pins: 7 VSS (power), 14 VDD (power)

## CD4030BF
designator U?
CMOS Quad Exclusive-OR Gate, J0014A, TUBE; Generic Part Number: CD4030B-MIL; Manufacturer: Texas Instruments; PartNumber: CD4030BF; VCC(Max)(V): 18; VCC(Min)(V): 3; ICC @ Nom Voltage(Max)(mA): 0.015; Bits(#): 4; F @ Nom Voltage(Max)(Mhz): 8; Rating: Military; Technology Family: CD4000; Voltage(Nom)(V): 10; Schmitt Trigger: No; Output Drive (IOL/IOH)(Max)(mA): 1.5/-1.5; tpd @ Nom Voltage(Max)(ns): 130; DatasheetVersion: SCHS035C; PackageReference: J0014A; Output Type: CMOS; Input Type: CMOS; Operating Temperature Range(C): -55 to 125; ComponentLink1Description: Manufacturer URL; ComponentLink1URL: http://www.ti.com/; ComponentLink2Description: Datasheet; ComponentLink2URL: http://www.ti.com/lit/ds/symlink/cd4030b-mil.pdf
footprint J0014A (DIP, 14-Leads, Body 19.95x7.2mm, Pitch 2.54mm)
part A pins: 1 A (in), 2 B (in), 3 J (out)
part B pins: 4 K (out), 5 C (in), 6 D (in)
part C pins: 8 E (in), 9 F (in), 10 L (out)
part D pins: 11 M (out), 12 G (in), 13 H (in)
part E pins: 7 VSS (power), 14 VDD (power)

## CD4030BF3A
designator U?
CMOS Quad Exclusive-OR Gate, J0014A, TUBE; Generic Part Number: CD4030B-MIL; Manufacturer: Texas Instruments; PartNumber: CD4030BF3A; VCC(Max)(V): 18; VCC(Min)(V): 3; ICC @ Nom Voltage(Max)(mA): 0.015; Bits(#): 4; F @ Nom Voltage(Max)(Mhz): 8; Rating: Military; Technology Family: CD4000; Voltage(Nom)(V): 10; Schmitt Trigger: No; Output Drive (IOL/IOH)(Max)(mA): 1.5/-1.5; tpd @ Nom Voltage(Max)(ns): 130; DatasheetVersion: SCHS035C; PackageReference: J0014A; Output Type: CMOS; Input Type: CMOS; Operating Temperature Range(C): -55 to 125; ComponentLink1Description: Manufacturer URL; ComponentLink1URL: http://www.ti.com/; ComponentLink2Description: Datasheet; ComponentLink2URL: http://www.ti.com/lit/ds/symlink/cd4030b-mil.pdf
footprint J0014A (DIP, 14-Leads, Body 19.95x7.2mm, Pitch 2.54mm)
part A pins: 1 A (in), 2 B (in), 3 J (out)
part B pins: 4 K (out), 5 C (in), 6 D (in)
part C pins: 8 E (in), 9 F (in), 10 L (out)
part D pins: 11 M (out), 12 G (in), 13 H (in)
part E pins: 7 VSS (power), 14 VDD (power)

## CD4030BM
designator U?
CMOS Quad Exclusive-OR Gate, D0014A, TUBE; Generic Part Number: CD4030B; Manufacturer: Texas Instruments; PartNumber: CD4030BM; VCC(Max)(V): 18; VCC(Min)(V): 3; ICC @ Nom Voltage(Max)(mA): 0.015; Bits(#): 4; F @ Nom Voltage(Max)(Mhz): 8; Rating: Military; Technology Family: CD4000; Voltage(Nom)(V): 10; Schmitt Trigger: No; Output Drive (IOL/IOH)(Max)(mA): 1.5/-1.5; tpd @ Nom Voltage(Max)(ns): 130; DatasheetVersion: SCHS035C; PackageReference: D0014A; Supplier 1: Mouser; Supplier Part Number 1: 595-CD4030BM; Supplier 2: Digi-Key; Supplier Part Number 2: 296-14263-5-ND; Output Type: CMOS; Input Type: CMOS; Operating Temperature Range(C): -55 to 125; ComponentLink1Description: Manufacturer URL; ComponentLink1URL: http://www.ti.com/; ComponentLink2Description: Datasheet; ComponentLink2URL: http://www.ti.com/lit/ds/symlink/cd4030b.pdf
footprint D0014A_N (SOIC, 14-Leads, Body 8.75x4mm, Pitch 1.27mm, IPC Medium Density)
footprint D0014A_M (SOIC, 14-Leads, Body 8.75x4mm, Pitch 1.27mm, IPC Low Density)
footprint D0014A_L (SOIC, 14-Leads, Body 8.75x4mm, Pitch 1.27mm, IPC High Density)
part A pins: 1 A (in), 2 B (in), 3 J (out)
part B pins: 4 K (out), 5 C (in), 6 D (in)
part C pins: 8 E (in), 9 F (in), 10 L (out)
part D pins: 11 M (out), 12 G (in), 13 H (in)
part E pins: 7 VSS (power), 14 VDD (power)

## CD4030BM96
designator U?
CMOS Quad Exclusive-OR Gate, D0014A, LARGE T&R; Generic Part Number: CD4030B; Manufacturer: Texas Instruments; PartNumber: CD4030BM96; VCC(Max)(V): 18; VCC(Min)(V): 3; ICC @ Nom Voltage(Max)(mA): 0.015; Bits(#): 4; F @ Nom Voltage(Max)(Mhz): 8; Rating: Military; Technology Family: CD4000; Voltage(Nom)(V): 10; Schmitt Trigger: No; Output Drive (IOL/IOH)(Max)(mA): 1.5/-1.5; tpd @ Nom Voltage(Max)(ns): 130; DatasheetVersion: SCHS035C; PackageReference: D0014A; Supplier 1: Mouser; Supplier Part Number 1: 595-CD4030BM96; Supplier 2: Digi-Key; Supplier Part Number 2: 296-24348-2-ND; Supplier 3: Digi-Key; Supplier Part Number 3: 296-24348-1-ND; Supplier 4: Digi-Key; Supplier Part Number 4: 296-24348-6-ND; Output Type: CMOS; Input Type: CMOS; Operating Temperature Range(C): -55 to 125; ComponentLink1Description: Manufacturer URL; ComponentLink1URL: http://www.ti.com/; ComponentLink2Description: Datasheet; ComponentLink2URL: http://www.ti.com/lit/ds/symlink/cd4030b.pdf
footprint D0014A_N (SOIC, 14-Leads, Body 8.75x4mm, Pitch 1.27mm, IPC Medium Density)
footprint D0014A_M (SOIC, 14-Leads, Body 8.75x4mm, Pitch 1.27mm, IPC Low Density)
footprint D0014A_L (SOIC, 14-Leads, Body 8.75x4mm, Pitch 1.27mm, IPC High Density)
part A pins: 1 A (in), 2 B (in), 3 J (out)
part B pins: 4 K (out), 5 C (in), 6 D (in)
part C pins: 8 E (in), 9 F (in), 10 L (out)
part D pins: 11 M (out), 12 G (in), 13 H (in)
part E pins: 7 VSS (power), 14 VDD (power)

## CD4030BM96G4
designator U?
CMOS Quad Exclusive-OR Gate, D0014A, LARGE T&R; Generic Part Number: CD4030B; Manufacturer: Texas Instruments; PartNumber: CD4030BM96G4; VCC(Max)(V): 18; VCC(Min)(V): 3; ICC @ Nom Voltage(Max)(mA): 0.015; Bits(#): 4; F @ Nom Voltage(Max)(Mhz): 8; Rating: Military; Technology Family: CD4000; Voltage(Nom)(V): 10; Schmitt Trigger: No; Output Drive (IOL/IOH)(Max)(mA): 1.5/-1.5; tpd @ Nom Voltage(Max)(ns): 130; DatasheetVersion: SCHS035C; PackageReference: D0014A; Supplier 1: Mouser; Supplier Part Number 1: 595-CD4030BM96G4; Supplier 2: Digi-Key; Supplier Part Number 2: CD4030BM96G4-ND; Output Type: CMOS; Input Type: CMOS; Operating Temperature Range(C): -55 to 125; ComponentLink1Description: Manufacturer URL; ComponentLink1URL: http://www.ti.com/; ComponentLink2Description: Datasheet; ComponentLink2URL: http://www.ti.com/lit/ds/symlink/cd4030b.pdf
footprint D0014A_N (SOIC, 14-Leads, Body 8.75x4mm, Pitch 1.27mm, IPC Medium Density)
footprint D0014A_M (SOIC, 14-Leads, Body 8.75x4mm, Pitch 1.27mm, IPC Low Density)
footprint D0014A_L (SOIC, 14-Leads, Body 8.75x4mm, Pitch 1.27mm, IPC High Density)
part A pins: 1 A (in), 2 B (in), 3 J (out)
part B pins: 4 K (out), 5 C (in), 6 D (in)
part C pins: 8 E (in), 9 F (in), 10 L (out)
part D pins: 11 M (out), 12 G (in), 13 H (in)
part E pins: 7 VSS (power), 14 VDD (power)

## CD4030BMT
designator U?
CMOS Quad Exclusive-OR Gate, D0014A, SMALL T&R; Generic Part Number: CD4030B; Manufacturer: Texas Instruments; PartNumber: CD4030BMT; VCC(Max)(V): 18; VCC(Min)(V): 3; ICC @ Nom Voltage(Max)(mA): 0.015; Bits(#): 4; F @ Nom Voltage(Max)(Mhz): 8; Rating: Military; Technology Family: CD4000; Voltage(Nom)(V): 10; Schmitt Trigger: No; Output Drive (IOL/IOH)(Max)(mA): 1.5/-1.5; tpd @ Nom Voltage(Max)(ns): 130; DatasheetVersion: SCHS035C; PackageReference: D0014A; Supplier 1: Mouser; Supplier Part Number 1: 595-CD4030BMT; Supplier 2: Digi-Key; Supplier Part Number 2: CD4030BMT-ND; Output Type: CMOS; Input Type: CMOS; Operating Temperature Range(C): -55 to 125; ComponentLink1Description: Manufacturer URL; ComponentLink1URL: http://www.ti.com/; ComponentLink2Description: Datasheet; ComponentLink2URL: http://www.ti.com/lit/ds/symlink/cd4030b.pdf
footprint D0014A_N (SOIC, 14-Leads, Body 8.75x4mm, Pitch 1.27mm, IPC Medium Density)
footprint D0014A_M (SOIC, 14-Leads, Body 8.75x4mm, Pitch 1.27mm, IPC Low Density)
footprint D0014A_L (SOIC, 14-Leads, Body 8.75x4mm, Pitch 1.27mm, IPC High Density)
part A pins: 1 A (in), 2 B (in), 3 J (out)
part B pins: 4 K (out), 5 C (in), 6 D (in)
part C pins: 8 E (in), 9 F (in), 10 L (out)
part D pins: 11 M (out), 12 G (in), 13 H (in)
part E pins: 7 VSS (power), 14 VDD (power)

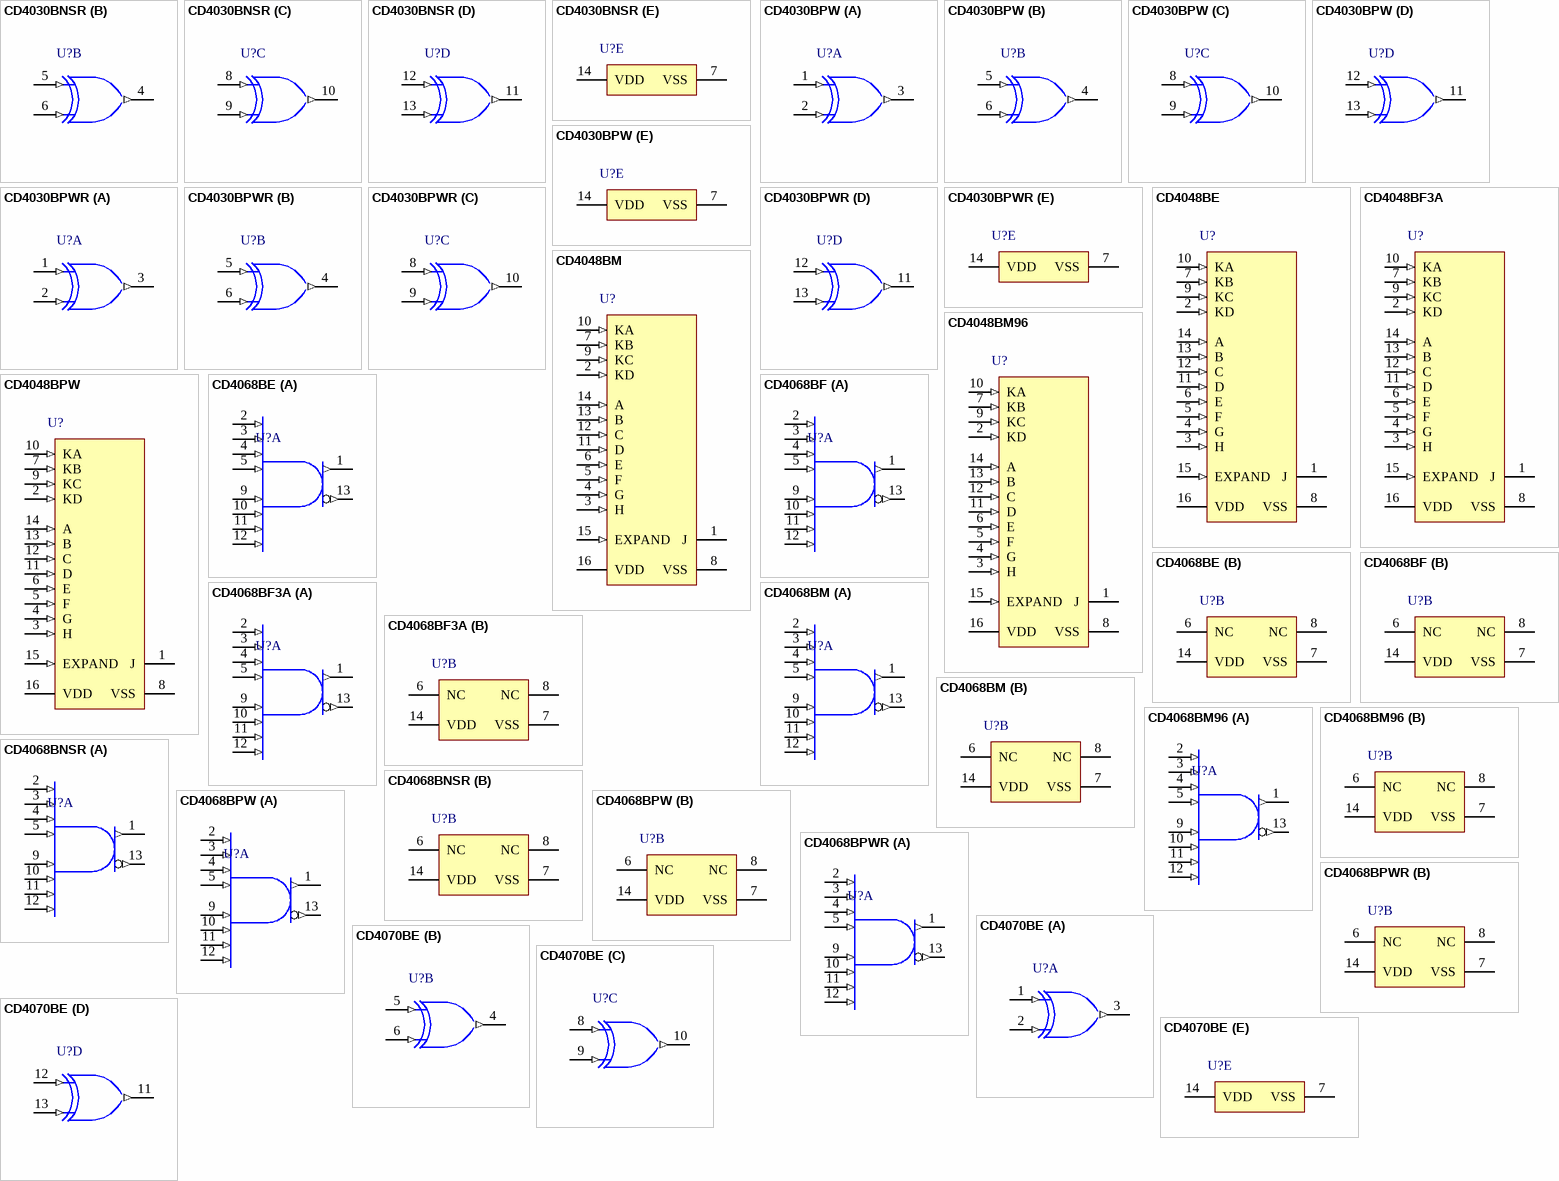
[diagram p39: symbols CD4030BNSR to CD4070BE]

## CD4030BNSR
designator U?
CMOS Quad Exclusive-OR Gate, NS0014A, LARGE T&R; Generic Part Number: CD4030B; Manufacturer: Texas Instruments; PartNumber: CD4030BNSR; VCC(Max)(V): 18; VCC(Min)(V): 3; ICC @ Nom Voltage(Max)(mA): 0.015; Bits(#): 4; F @ Nom Voltage(Max)(Mhz): 8; Rating: Military; Technology Family: CD4000; Voltage(Nom)(V): 10; Schmitt Trigger: No; Output Drive (IOL/IOH)(Max)(mA): 1.5/-1.5; tpd @ Nom Voltage(Max)(ns): 130; DatasheetVersion: SCHS035C; PackageReference: NS0014A; Supplier 1: Mouser; Supplier Part Number 1: 595-CD4030BNSR; Supplier 2: Digi-Key; Supplier Part Number 2: 296-14102-2-ND; Supplier 3: Digi-Key; Supplier Part Number 3: 296-14102-1-ND; Supplier 4: Digi-Key; Supplier Part Number 4: 296-14102-6-ND; Output Type: CMOS; Input Type: CMOS; Operating Temperature Range(C): -55 to 125; ComponentLink1Description: Manufacturer URL; ComponentLink1URL: http://www.ti.com/; ComponentLink2Description: Datasheet; ComponentLink2URL: http://www.ti.com/lit/ds/symlink/cd4030b.pdf
footprint NS0014A_N (SOIC,14-Leads,Body 10.5x5.6mm,Pitch 1.27mm,IPC Medium Density)
footprint NS0014A_M (SOIC,14-Leads,Body 10.5x5.6mm,Pitch 1.27mm,IPC Low Density)
footprint NS0014A_L (SOIC,14-Leads,Body 10.5x5.6mm,Pitch 0.4mm,IPC High Density)
part A pins: 1 A (in), 2 B (in), 3 J (out)
part B pins: 4 K (out), 5 C (in), 6 D (in)
part C pins: 8 E (in), 9 F (in), 10 L (out)
part D pins: 11 M (out), 12 G (in), 13 H (in)
part E pins: 7 VSS (power), 14 VDD (power)

## CD4030BPW
designator U?
CMOS Quad Exclusive-OR Gate, PW0014A, TUBE; Generic Part Number: CD4030B; Manufacturer: Texas Instruments; PartNumber: CD4030BPW; VCC(Max)(V): 18; VCC(Min)(V): 3; ICC @ Nom Voltage(Max)(mA): 0.015; Bits(#): 4; F @ Nom Voltage(Max)(Mhz): 8; Rating: Military; Technology Family: CD4000; Voltage(Nom)(V): 10; Schmitt Trigger: No; Output Drive (IOL/IOH)(Max)(mA): 1.5/-1.5; tpd @ Nom Voltage(Max)(ns): 130; DatasheetVersion: SCHS035C; PackageReference: PW0014A; Supplier 1: Mouser; Supplier Part Number 1: 595-CD4030BPW; Supplier 2: Digi-Key; Supplier Part Number 2: 296-32881-5-ND; Output Type: CMOS; Input Type: CMOS; Operating Temperature Range(C): -55 to 125; ComponentLink1Description: Manufacturer URL; ComponentLink1URL: http://www.ti.com/; ComponentLink2Description: Datasheet; ComponentLink2URL: http://www.ti.com/lit/ds/symlink/cd4030b.pdf
footprint PW0014A_N (SOP, 14-Leads, Body 5.1x4.5mm, Pitch 0.65mm, IPC Medium Density)
footprint PW0014A_M (SOP, 14-Leads, Body 5.1x4.5mm, Pitch 0.65mm, IPC Low Density)
footprint PW0014A_L (SOP, 14-Leads, Body 5.1x4.5mm, Pitch 0.65mm, IPC High Density)
part A pins: 1 A (in), 2 B (in), 3 J (out)
part B pins: 4 K (out), 5 C (in), 6 D (in)
part C pins: 8 E (in), 9 F (in), 10 L (out)
part D pins: 11 M (out), 12 G (in), 13 H (in)
part E pins: 7 VSS (power), 14 VDD (power)

## CD4030BPWR
designator U?
CMOS Quad Exclusive-OR Gate, PW0014A, LARGE T&R; Generic Part Number: CD4030B; Manufacturer: Texas Instruments; PartNumber: CD4030BPWR; VCC(Max)(V): 18; VCC(Min)(V): 3; ICC @ Nom Voltage(Max)(mA): 0.015; Bits(#): 4; F @ Nom Voltage(Max)(Mhz): 8; Rating: Military; Technology Family: CD4000; Voltage(Nom)(V): 10; Schmitt Trigger: No; Output Drive (IOL/IOH)(Max)(mA): 1.5/-1.5; tpd @ Nom Voltage(Max)(ns): 130; DatasheetVersion: SCHS035C; PackageReference: PW0014A; Supplier 1: Mouser; Supplier Part Number 1: 595-CD4030BPWR; Supplier 2: Digi-Key; Supplier Part Number 2: 296-14103-2-ND; Supplier 3: Digi-Key; Supplier Part Number 3: 296-14103-1-ND; Supplier 4: Digi-Key; Supplier Part Number 4: 296-14103-6-ND; Output Type: CMOS; Input Type: CMOS; Operating Temperature Range(C): -55 to 125; ComponentLink1Description: Manufacturer URL; ComponentLink1URL: http://www.ti.com/; ComponentLink2Description: Datasheet; ComponentLink2URL: http://www.ti.com/lit/ds/symlink/cd4030b.pdf
footprint PW0014A_N (SOP, 14-Leads, Body 5.1x4.5mm, Pitch 0.65mm, IPC Medium Density)
footprint PW0014A_M (SOP, 14-Leads, Body 5.1x4.5mm, Pitch 0.65mm, IPC Low Density)
footprint PW0014A_L (SOP, 14-Leads, Body 5.1x4.5mm, Pitch 0.65mm, IPC High Density)
part A pins: 1 A (in), 2 B (in), 3 J (out)
part B pins: 4 K (out), 5 C (in), 6 D (in)
part C pins: 8 E (in), 9 F (in), 10 L (out)
part D pins: 11 M (out), 12 G (in), 13 H (in)
part E pins: 7 VSS (power), 14 VDD (power)

## CD4048BE
designator U?
CMOS Multifunction Expandable 8-Input Gate, N0016A, TUBE; Generic Part Number: CD4048B; Manufacturer: Texas Instruments; PartNumber: CD4048BE; VCC(Max)(V): 18; VCC(Min)(V): 3; ICC @ Nom Voltage(Max)(mA): 0.015; Bits(#): 8; Rating: Catalog; Technology Family: CD4000; Voltage(Nom)(V): 10; Schmitt Trigger: No; Output Drive (IOL/IOH)(Max)(mA): -1.5/1.5; tpd @ Nom Voltage(Max)(ns): 300; DatasheetVersion: SCHS045C; PackageReference: N0016A; Supplier 1: Mouser; Supplier Part Number 1: 595-CD4048BE; Supplier 2: Digi-Key; Supplier Part Number 2: 296-2054-5-ND; Output Type: CMOS; Input Type: CMOS; F @ Nom Voltage(Max)(Mhz): 8; Operating Temperature Range(C): -55 to 125; Code_JEDEC: MS-001; ComponentLink1Description: Manufacturer URL; ComponentLink1URL: http://www.ti.com/; ComponentLink2Description: Datasheet; ComponentLink2URL: http://www.ti.com/lit/ds/symlink/cd4048b.pdf; ComponentLink3Description: Package Specification; ComponentLink3URL: http://www.ti.com/lit/ml/mpdi002c/mpdi002c.pdf
footprint N0016A (DIP, 16-Leads, Body 19.7x6.6mm, Pitch 2.54mm)
pins: 1 J (hiz), 2 KD (in), 3 H (in), 4 G (in), 5 F (in), 6 E (in), 7 KB (in), 8 VSS (power), 9 KC (in), 10 KA (in), 11 D (in), 12 C (in), 13 B (in), 14 A (in), 15 EXPAND (in), 16 VDD (power)

## CD4048BF3A
designator U?
CMOS Multifunction Expandable 8-Input Gate, J0016A, TUBE; Generic Part Number: CD4048B-MIL; Manufacturer: Texas Instruments; PartNumber: CD4048BF3A; VCC(Max)(V): 18; VCC(Min)(V): 3; ICC @ Nom Voltage(Max)(mA): 0.015; Bits(#): 8; Rating: Military; Technology Family: CD4000; Voltage(Nom)(V): 10; Schmitt Trigger: No; Output Drive (IOL/IOH)(Max)(mA): -1.5/1.5; tpd @ Nom Voltage(Max)(ns): 300; DatasheetVersion: SCHS045C; PackageReference: J0016A; Output Type: CMOS; Input Type: CMOS; F @ Nom Voltage(Max)(Mhz): 8; Operating Temperature Range(C): -55 to 125; ComponentLink1Description: Manufacturer URL; ComponentLink1URL: http://www.ti.com/; ComponentLink2Description: Datasheet; ComponentLink2URL: http://www.ti.com/lit/ds/symlink/cd4048b-mil.pdf; ComponentLink3Description: Package Specification; ComponentLink3URL: http://www.ti.com/lit/ml/mcer002d/mcer002d.pdf
footprint J0016A (DIP, 16-Leads, Body 21.35x7.2mm, Pitch 2.54mm)
pins: 1 J (hiz), 2 KD (in), 3 H (in), 4 G (in), 5 F (in), 6 E (in), 7 KB (in), 8 VSS (power), 9 KC (in), 10 KA (in), 11 D (in), 12 C (in), 13 B (in), 14 A (in), 15 EXPAND (in), 16 VDD (power)

## CD4048BM
designator U?
CMOS Multifunction Expandable 8-Input Gate, D0016A, TUBE; Generic Part Number: CD4048B; Manufacturer: Texas Instruments; PartNumber: CD4048BM; VCC(Max)(V): 18; VCC(Min)(V): 3; ICC @ Nom Voltage(Max)(mA): 0.015; Bits(#): 8; Rating: Catalog; Technology Family: CD4000; Voltage(Nom)(V): 10; Schmitt Trigger: No; Output Drive (IOL/IOH)(Max)(mA): -1.5/1.5; tpd @ Nom Voltage(Max)(ns): 300; DatasheetVersion: SCHS045C; PackageReference: D0016A; Supplier 1: Mouser; Supplier Part Number 1: 595-CD4048BM; Supplier 2: Digi-Key; Supplier Part Number 2: 296-32891-5-ND; Output Type: CMOS; Input Type: CMOS; F @ Nom Voltage(Max)(Mhz): 8; Operating Temperature Range(C): -55 to 125; Code_JEDEC: MS-012 variation AC; ComponentLink1Description: Manufacturer URL; ComponentLink1URL: http://www.ti.com/; ComponentLink2Description: Datasheet; ComponentLink2URL: http://www.ti.com/lit/ds/symlink/cd4048b.pdf; ComponentLink3Description: Package Specification; ComponentLink3URL: http://www.ti.com/lit/ml/mpds178g/mpds178g.pdf
footprint D0016A_N (SOIC, 16-Leads, Body 10x4mm, Pitch 1.27mm, IPC Medium Density)
footprint D0016A_M (SOIC, 16-Leads, Body 10x4mm, Pitch 1.27mm, IPC Low Density)
footprint D0016A_L (SOIC, 16-Leads, Body 10x4mm, Pitch 1.27mm, IPC High Density)
pins: 1 J (hiz), 2 KD (in), 3 H (in), 4 G (in), 5 F (in), 6 E (in), 7 KB (in), 8 VSS (power), 9 KC (in), 10 KA (in), 11 D (in), 12 C (in), 13 B (in), 14 A (in), 15 EXPAND (in), 16 VDD (power)

## CD4048BM96
designator U?
CMOS Multifunction Expandable 8-Input Gate, D0016A, LARGE T&R; Generic Part Number: CD4048B; Manufacturer: Texas Instruments; PartNumber: CD4048BM96; VCC(Max)(V): 18; VCC(Min)(V): 3; ICC @ Nom Voltage(Max)(mA): 0.015; Bits(#): 8; Rating: Catalog; Technology Family: CD4000; Voltage(Nom)(V): 10; Schmitt Trigger: No; Output Drive (IOL/IOH)(Max)(mA): -1.5/1.5; tpd @ Nom Voltage(Max)(ns): 300; DatasheetVersion: SCHS045C; PackageReference: D0016A; Supplier 1: Mouser; Supplier Part Number 1: 595-CD4048BM96; Supplier 2: Digi-Key; Supplier Part Number 2: 296-31501-2-ND; Supplier 3: Digi-Key; Supplier Part Number 3: 296-31501-1-ND; Supplier 4: Digi-Key; Supplier Part Number 4: 296-31501-6-ND; Output Type: CMOS; Input Type: CMOS; F @ Nom Voltage(Max)(Mhz): 8; Operating Temperature Range(C): -55 to 125; Code_JEDEC: MS-012 variation AC; ComponentLink1Description: Manufacturer URL; ComponentLink1URL: http://www.ti.com/; ComponentLink2Description: Datasheet; ComponentLink2URL: http://www.ti.com/lit/ds/symlink/cd4048b.pdf; ComponentLink3Description: Package Specification; ComponentLink3URL: http://www.ti.com/lit/ml/mpds178g/mpds178g.pdf
footprint D0016A_N (SOIC, 16-Leads, Body 10x4mm, Pitch 1.27mm, IPC Medium Density)
footprint D0016A_M (SOIC, 16-Leads, Body 10x4mm, Pitch 1.27mm, IPC Low Density)
footprint D0016A_L (SOIC, 16-Leads, Body 10x4mm, Pitch 1.27mm, IPC High Density)
pins: 1 J (hiz), 2 KD (in), 3 H (in), 4 G (in), 5 F (in), 6 E (in), 7 KB (in), 8 VSS (power), 9 KC (in), 10 KA (in), 11 D (in), 12 C (in), 13 B (in), 14 A (in), 15 EXPAND (in), 16 VDD (power)

## CD4048BPW
designator U?
CMOS Multifunction Expandable 8-Input Gate, PW0016A, TUBE; Generic Part Number: CD4048B; Manufacturer: Texas Instruments; PartNumber: CD4048BPW; VCC(Max)(V): 18; VCC(Min)(V): 3; ICC @ Nom Voltage(Max)(mA): 0.015; Bits(#): 8; Rating: Catalog; Technology Family: CD4000; Voltage(Nom)(V): 10; Schmitt Trigger: No; Output Drive (IOL/IOH)(Max)(mA): -1.5/1.5; tpd @ Nom Voltage(Max)(ns): 300; DatasheetVersion: SCHS045C; PackageReference: PW0016A; Supplier 1: Mouser; Supplier Part Number 1: 595-CD4048BPW; Supplier 2: Digi-Key; Supplier Part Number 2: CD4048BPW-ND; Output Type: CMOS; Input Type: CMOS; F @ Nom Voltage(Max)(Mhz): 8; Operating Temperature Range(C): -55 to 125; Code_JEDEC: MO-153; ComponentLink1Description: Manufacturer URL; ComponentLink1URL: http://www.ti.com/; ComponentLink2Description: Datasheet; ComponentLink2URL: http://www.ti.com/lit/ds/symlink/cd4048b.pdf; ComponentLink3Description: Package Specification; ComponentLink3URL: http://www.ti.com/lit/ml/mpds361/mpds361.pdf
footprint PW0016A_N (SOP, 16-Leads, Body 5.1x4.5mm, Pitch 0.65mm, IPC Medium Density)
footprint PW0016A_M (SOP, 16-Leads, Body 5.1x4.5mm, Pitch 0.65mm, IPC Low Density)
footprint PW0016A_L (SOP, 16-Leads, Body 5.1x4.5mm, Pitch 0.65mm, IPC High Density)
pins: 1 J (hiz), 2 KD (in), 3 H (in), 4 G (in), 5 F (in), 6 E (in), 7 KB (in), 8 VSS (power), 9 KC (in), 10 KA (in), 11 D (in), 12 C (in), 13 B (in), 14 A (in), 15 EXPAND (in), 16 VDD (power)

## CD4068BE
designator U?
CMOS 8-Input NAND/AND Gate, N0014A, TUBE; Generic Part Number: CD4068B; Manufacturer: Texas Instruments; PartNumber: CD4068BE; VCC(Max)(V): 18; VCC(Min)(V): 3; ICC @ Nom Voltage(Max)(mA): 0.015; Bits(#): 1; F @ Nom Voltage(Max)(Mhz): 8; Rating: Catalog; Technology Family: CD4000; Voltage(Nom)(V): 10; Schmitt Trigger: No; Output Drive (IOL/IOH)(Max)(mA): 1.5/-1.5; DatasheetVersion: SCHS053C; PackageReference: N0014A; Supplier 1: Mouser; Supplier Part Number 1: 595-CD4068BE; Supplier 2: Digi-Key; Supplier Part Number 2: 296-14124-5-ND; Output Type: CMOS; Input Type: CMOS; Operating Temperature Range(C): -55 to 125; Code_JEDEC: MS-001; ComponentLink1Description: Manufacturer URL; ComponentLink1URL: http://www.ti.com/; ComponentLink2Description: Datasheet; ComponentLink2URL: http://www.ti.com/lit/ds/symlink/cd4068b.pdf; ComponentLink3Description: Package Specification; ComponentLink3URL: http://www.ti.com/lit/ml/mpdi002c/mpdi002c.pdf
footprint N0014A (DIP, 14-Leads, Body 19.7x6.6mm, Pitch 2.54mm)
part A pins: 1 K (out), 2 A (in), 3 B (in), 4 C (in), 5 D (in), 9 E (in), 10 F (in), 11 G (in), 12 H (in), 13 J (out)
part B pins: 6 NC, 7 VSS (power), 8 NC, 14 VDD (power)

## CD4068BF
designator U?
CMOS 8-Input NAND/AND Gate, J0014A, TUBE; Generic Part Number: CD4068B-MIL; Manufacturer: Texas Instruments; PartNumber: CD4068BF; VCC(Max)(V): 18; VCC(Min)(V): 3; ICC @ Nom Voltage(Max)(mA): 0.015; F @ Nom Voltage(Max)(Mhz): 8; Rating: Military; Technology Family: CD4000; Voltage(Nom)(V): 10; Schmitt Trigger: No; Output Drive (IOL/IOH)(Max)(mA): 1.5/-1.5; DatasheetVersion: SCHS053C; PackageReference: J0014A; Output Type: CMOS; Input Type: CMOS; Operating Temperature Range(C): -55 to 125; ComponentLink1Description: Manufacturer URL; ComponentLink1URL: http://www.ti.com/; ComponentLink2Description: Datasheet; ComponentLink2URL: http://www.ti.com/lit/ds/symlink/cd4068b-mil.pdf; ComponentLink3Description: Package Specification; ComponentLink3URL: http://www.ti.com/lit/ml/mcer002d/mcer002d.pdf
footprint J0014A (DIP, 14-Leads, Body 19.95x7.2mm, Pitch 2.54mm)
part A pins: 1 K (out), 2 A (in), 3 B (in), 4 C (in), 5 D (in), 9 E (in), 10 F (in), 11 G (in), 12 H (in), 13 J (out)
part B pins: 6 NC, 7 VSS (power), 8 NC, 14 VDD (power)